# Altium schematic symbol library lxdc2hl_18a.SchLib: 1 symbol
Pins are listed as number, name and electrical type; pins without a type are passive.

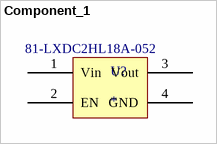
[diagram p0: symbol Component_1]

## Component_1
designator U?  Supplier Part Number 1: 81-LXDC2HL18A-052
Supplier 1: Mouser
footprint PCBComponent_1
pins: 1 Vin, 2 EN, 3 Vout, 4 GND